# EAGLE library part SGP40 (library angrypig7-IC-Sensors)
Sensirion SGP40, TVOC sensor
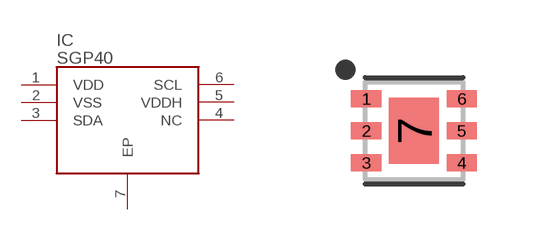
[diagram p3: symbol with the pads of DFN6-SGP40; footprint DFN6-SGP40]

Designator prefix IC

## SGP40  [DFN6-SGP40]
1  VDD
2  VSS
3  SDA
4  NC
5  VDDH
6  SCL
7  EP

## Footprint DFN6-SGP40 (pad centres in mm)
6-SON (DFN), 0.80 mm pitch, 2.44 X 2.44 X 0.85 mm body, 1.64 X 1.25 mm thermal pad 6-pin SON (DFN) package with 0.80 mm pitch with body size 2.44 X 2.44 X 0.85 mm and thermal pad size 1.64 X 1.25 mm
smd 0.762 x 0.432: 1 -1.195,0.8; 2 -1.195,0; 3 -1.195,-0.8; 4 1.195,-0.8; 5 1.195,0; 6 1.195,0.8
smd 1.25 x 1.64: 7 0,0